# Altium footprint library Jumpers.PcbLib: 18 footprints (part 2 of 2)
Each footprint in its own frame and in the unit in brackets; x right, y up, seen from the top. Pads: shape width x height; smd on the part's side, far side on the other; paste and mask are expansions set on the pad; w line width, h text height; cw(c..) or ccw(c..) is an arc to the next point about the centre after c.
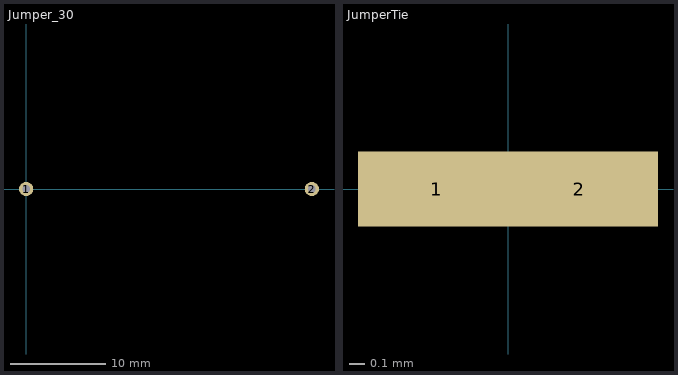
[diagram p1: the footprints below, top view; thin cyan lines are the x and y axes]

## Jumper_30 [mm] "Перемычка 30 мм отверстия"
height 0.5
pads (2):
  round 1.5 hole 0.8: 1(0,0) 2(30,0)

## JumperTie [mm]
pads (2):
  rect 1.05x0.5 smd mask+0.07: 1(-0.475,0) 2(0.475,0)